# EAGLE library part DS32KHZ (library ~~dallas)
32.768KHz Precision Oscillator w/battery backup
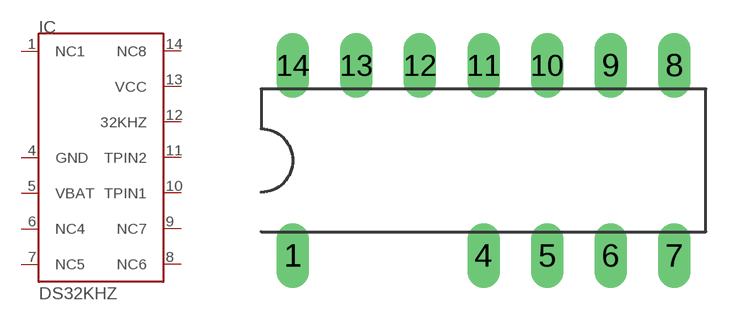
[diagram p1: symbol with the pads of DS32KHZ; footprint DS32KHZ]

Designator prefix IC

## DS32KHZ  [DS32KHZ]
1  NC1  nc
4  GND  pwr
5  VBAT  pwr
6  NC4  nc
7  NC5  nc
8  NC6  nc
9  NC7  nc
10  TPIN1  in
11  TPIN2  in
12  32KHZ  out
13  VCC  pwr
14  NC8  nc

## Footprint DS32KHZ (pad centres in mm)
drill 0.8 long: 1 -7.62,-3.81; 4 0,-3.81; 5 2.54,-3.81; 6 5.08,-3.81; 7 7.62,-3.81; 8 7.62,3.81; 9 5.08,3.81; 10 2.54,3.81; 11 0,3.81; 12 -2.54,3.81; 13 -5.08,3.81; 14 -7.62,3.81